# Altium schematic symbol library LMX2820RTCR.SchLib: 1 symbol
Pins are listed as number, name and electrical type; pins without a type are passive.

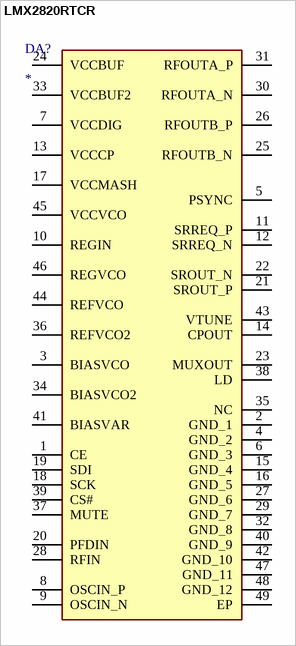
[diagram p0: symbol LMX2820RTCR]

## LMX2820RTCR
designator DA?
Integrated Circuit; Manufacturer_Name: Texas Instruments; Manufacturer_Part_Number: LMX2820RTCR; Datasheet Link: https://www.ti.com/lit/ds/symlink/lmx2820.pdf?ts=1623390819974&ref_url=https%253A%252F%252Fwww.mouser.ie%252F; Height: 0.9mm; Mouser Part Number: 595-LMX2820RTCR; Mouser Price/Stock: https://www.mouser.co.uk/ProductDetail/Texas-Instruments/LMX2820RTCR?qs=eP2BKZSCXI7bHa7ylpEizw%3D%3D; Arrow Part Number: LMX2820RTCR; Arrow Price/Stock: https://www.arrow.com/en/products/lmx2820rtcr/texas-instruments?region=nac
footprint QFN50P700X700X90-49N-D
pins: 1 CE, 2 GND_1, 3 BIASVCO, 4 GND_2, 5 PSYNC, 6 GND_3, 7 VCCDIG, 8 OSCIN_P, 9 OSCIN_N, 10 REGIN, 11 SRREQ_P, 12 SRREQ_N, 13 VCCCP, 14 CPOUT, 15 GND_4, 16 GND_5, 17 VCCMASH, 18 SCK, 19 SDI, 20 PFDIN, 21 SROUT_P, 22 SROUT_N, 23 MUXOUT, 24 VCCBUF, 25 RFOUTB_N, 26 RFOUTB_P, 27 GND_6, 28 RFIN, 29 GND_7, 30 RFOUTA_N, 31 RFOUTA_P, 32 GND_8, 33 VCCBUF2, 34 BIASVCO2, 35 NC, 36 REFVCO2, 37 MUTE, 38 LD, 39 CS#, 40 GND_9, 41 BIASVAR, 42 GND_10, 43 VTUNE, 44 REFVCO, 45 VCCVCO, 46 REGVCO, 47 GND_11, 48 GND_12, 49 EP